# EAGLE library part ZR_S8B-ZR (library CASE-JST)
JST ZR Connector, through hole, 8 pin, side entry Description: JST ZR connector with 1.5 mm pitch, through hole version, 8 pin, side entry. Links: Datasheet <http://www.jst-mfg.com/product/pdf/eng/eZH.pdf>
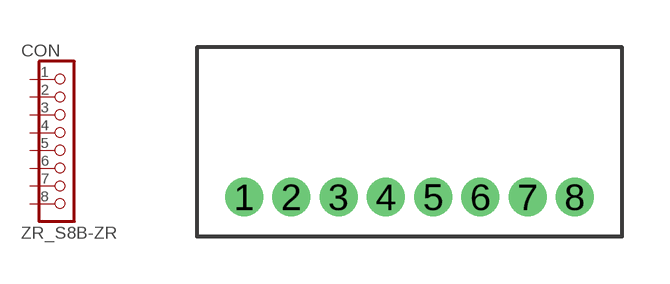
[diagram p24: symbol with the pads of S8B-ZR; footprint S8B-ZR]

Designator prefix CON

## ZR_S8B-ZR  [S8B-ZR]
1  1  pas
2  2  pas
3  3  pas
4  4  pas
5  5  pas
6  6  pas
7  7  pas
8  8  pas

## Footprint S8B-ZR (pad centres in mm)
JST S8B-ZR Datasheet <http://www.jst-mfg.com/product/pdf/eng/eZH.pdf>
drill 0.7: 1 -5.25,0; 2 -3.75,0; 3 -2.25,0; 4 -0.75,0; 5 0.75,0; 6 2.25,0; 7 3.75,0; 8 5.25,0